# Altium integrated library Microchip Linear.IntLib: 855 symbols (part 17 of 22)
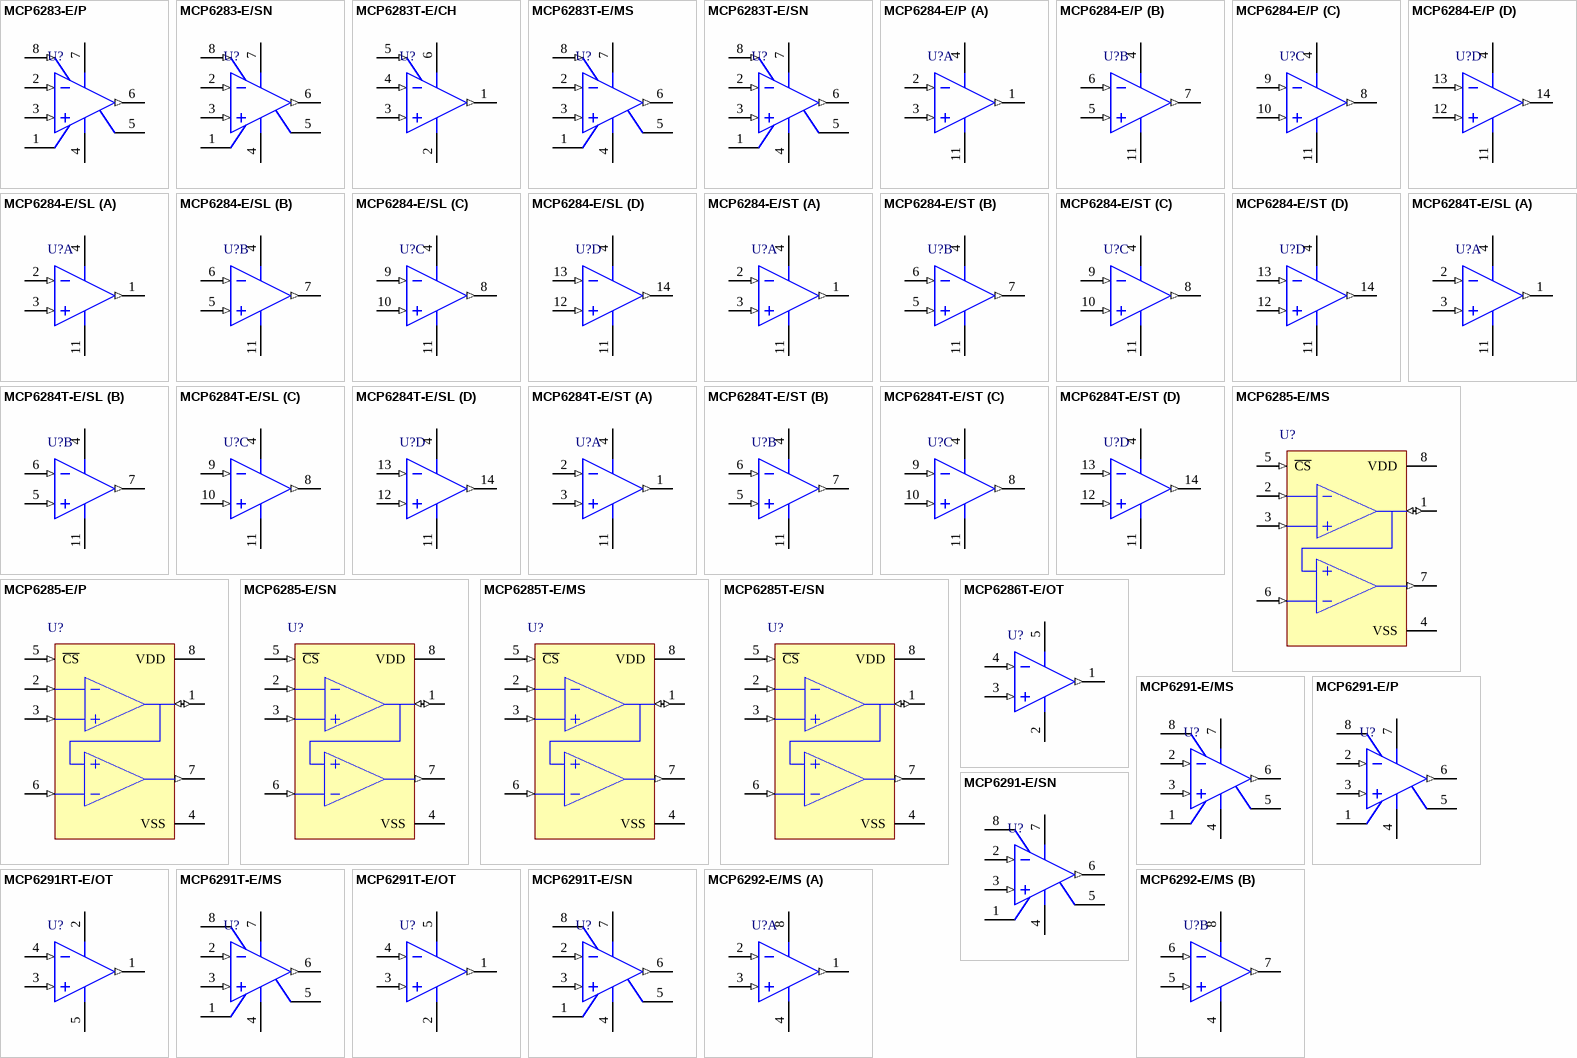
[diagram p57: symbols MCP6283-E/P to MCP6292-E/MS]

## MCP6283-E/SN
designator U?
450 uA, 5 MHz Rail-to-Rail Operational Amplifier, 8-Pin SOIC, Extended Temperature; Manufacturer: Microchip; PartNumber: MCP6283-E/SN; DatasheetVersion: revE, Feb-2008; PackageVersion: revBB, Aug-2009; PackageReference: SOIC-SN8; PackageDescription: 8-Lead Plastic Small Outline (SN) - Narrow, 3.90mm Body [SOIC]; Supplier 1: Digi-Key; Supplier Part Number 1: MCP6283-E/SN-ND; Mounting Technology: Surface Mount; Code_JEDEC: MS-012; Code_IPC: SOIC127P600-8; ComponentLink1Description: Manufacturer URL; ComponentLink1URL: http://www.microchip.com/; ComponentLink2Description: Datasheet; ComponentLink2URL: http://ww1.microchip.com/downloads/en/DeviceDoc/21811e.pdf; ComponentLink3Description: Package Specification; ComponentLink3URL: http://www.microchip.com/stellent/groups/techpub_sg/documents/packagingspec/en012702.pdf
footprint SOIC-SN8_N (SOIC, 8-Leads, Body 4.9x3.8mm, Pitch 1.27mm, IPC Medium Density)
footprint SOIC-SN8_L (SOIC, 8-Leads, Body 4.9x3.8mm, Pitch 1.27mm, IPC High Density)
footprint SOIC-SN8_M (SOIC, 8-Leads, Body 4.9x3.8mm, Pitch 1.27mm, IPC Low Density)
pins: 1 NC, 2 VIN- (in), 3 VIN+ (in), 4 VSS (power), 5 NC, 6 VOUT (out), 7 VDD (power), 8 ~{CS} (in)

## MCP6283T-E/CH
designator U?
450 uA, 5 MHz Rail-to-Rail Operational Amplifier, 6-Pin SOT-23, Extended Temperature, Tape and Reel; Manufacturer: Microchip; PartNumber: MCP6283T-E/CH; DatasheetVersion: revE, Feb-2008; PackageVersion: revBB, Aug-2009; PackageReference: SOT-23-CH6; PackageDescription: 6-Lead Plastic Small Outline Transistor (CH) [SOT-23]; Supplier 1: Digi-Key; Supplier Part Number 1: MCP6283T-E/CHTR-ND; Mounting Technology: Surface Mount; Code_IPC: SOT26A-6; ComponentLink1Description: Manufacturer URL; ComponentLink1URL: http://www.microchip.com/; ComponentLink2Description: Datasheet; ComponentLink2URL: http://ww1.microchip.com/downloads/en/DeviceDoc/21811e.pdf; ComponentLink3Description: Package Specification; ComponentLink3URL: http://www.microchip.com/stellent/groups/techpub_sg/documents/packagingspec/en012702.pdf
footprint SOT-23-CH6_N (SOT23, 6-Leads, Body 2.9x1.6mm, Pitch 0.95mm, Lead Span 2.7mm, IPC Medium Density)
footprint SOT-23-CH6_L (SOT23, 6-Leads, Body 2.9x1.6mm, Pitch 0.95mm, Lead Span 2.7mm, IPC High Density)
footprint SOT-23-CH6_M (SOT23, 6-Leads, Body 2.9x1.6mm, Pitch 0.95mm, Lead Span 2.7mm, IPC Low Density)
pins: 1 VOUT (out), 2 VSS (power), 3 VIN+ (in), 4 VIN- (in), 5 ~{CS} (in), 6 VDD (power)

## MCP6283T-E/MS
designator U?
450 uA, 5 MHz Rail-to-Rail Operational Amplifier, 8-Pin MSOP, Extended Temperature, Tape and Reel; Manufacturer: Microchip; PartNumber: MCP6283T-E/MS; DatasheetVersion: revE, Feb-2008; PackageVersion: revBB, Aug-2009; PackageReference: MSOP-MS8; PackageDescription: 8-Lead Plastic Micro Small Outline Package (MS) [MSOP]; Supplier 1: Digi-Key; Supplier Part Number 1: MCP6283T-E/MS-ND; Mounting Technology: Surface Mount; ComponentLink1Description: Manufacturer URL; ComponentLink1URL: http://www.microchip.com/; ComponentLink2Description: Datasheet; ComponentLink2URL: http://ww1.microchip.com/downloads/en/DeviceDoc/21811e.pdf; ComponentLink3Description: Package Specification; ComponentLink3URL: http://www.microchip.com/stellent/groups/techpub_sg/documents/packagingspec/en012702.pdf
footprint MSOP-MS8_N (TSOP, 8-Leads, Body 3x3mm, Pitch 0.65mm, IPC Medium Density)
footprint MSOP-MS8_L (TSOP, 8-Leads, Body 3x3mm, Pitch 0.65mm, IPC High Density)
footprint MSOP-MS8_M (TSOP, 8-Leads, Body 3x3mm, Pitch 0.65mm, IPC Low Density)
pins: 1 NC, 2 VIN- (in), 3 VIN+ (in), 4 VSS (power), 5 NC, 6 VOUT (out), 7 VDD (power), 8 ~{CS} (in)

## MCP6283T-E/SN
designator U?
450 uA, 5 MHz Rail-to-Rail Operational Amplifier, 8-Pin SOIC, Extended Temperature, Tape and Reel; Manufacturer: Microchip; PartNumber: MCP6283T-E/SN; DatasheetVersion: revE, Feb-2008; PackageVersion: revBB, Aug-2009; PackageReference: SOIC-SN8; PackageDescription: 8-Lead Plastic Small Outline (SN) - Narrow, 3.90mm Body [SOIC]; Supplier 1: Digi-Key; Supplier Part Number 1: MCP6283T-E/SN-ND; Mounting Technology: Surface Mount; Code_JEDEC: MS-012; Code_IPC: SOIC127P600-8; ComponentLink1Description: Manufacturer URL; ComponentLink1URL: http://www.microchip.com/; ComponentLink2Description: Datasheet; ComponentLink2URL: http://ww1.microchip.com/downloads/en/DeviceDoc/21811e.pdf; ComponentLink3Description: Package Specification; ComponentLink3URL: http://www.microchip.com/stellent/groups/techpub_sg/documents/packagingspec/en012702.pdf
footprint SOIC-SN8_N (SOIC, 8-Leads, Body 4.9x3.8mm, Pitch 1.27mm, IPC Medium Density)
footprint SOIC-SN8_L (SOIC, 8-Leads, Body 4.9x3.8mm, Pitch 1.27mm, IPC High Density)
footprint SOIC-SN8_M (SOIC, 8-Leads, Body 4.9x3.8mm, Pitch 1.27mm, IPC Low Density)
pins: 1 NC, 2 VIN- (in), 3 VIN+ (in), 4 VSS (power), 5 NC, 6 VOUT (out), 7 VDD (power), 8 ~{CS} (in)

## MCP6284-E/P
designator U?
450 uA, 5 MHz Rail-to-Rail Operational Amplifier, 14-Pin PDIP, Extended Temperature; Manufacturer: Microchip; PartNumber: MCP6284-E/P; DatasheetVersion: revE, Feb-2008; PackageVersion: revBB, Aug-2009; PackageReference: PDIP300-P14; PackageDescription: 14-Lead Plastic Dual In-Line (P) - 300 mil Body [PDIP]; Supplier 1: Digi-Key; Supplier Part Number 1: MCP6284-E/P-ND; Mounting Technology: Through Hole; ComponentLink1Description: Manufacturer URL; ComponentLink1URL: http://www.microchip.com/; ComponentLink2Description: Datasheet; ComponentLink2URL: http://ww1.microchip.com/downloads/en/DeviceDoc/21811e.pdf; ComponentLink3Description: Package Specification; ComponentLink3URL: http://www.microchip.com/stellent/groups/techpub_sg/documents/packagingspec/en012702.pdf
footprint PDIP300-P14 (DIP, 14-Leads, Row Spacing 7.62mm, Pitch 2.54mm, Body 19.2x6.6mm)
pins on every part: 4 VDD (power), 11 VSS (power)
part A pins: 1 VOUTA (out), 2 VINA- (in), 3 VINA+ (in)
part B pins: 5 VINB+ (in), 6 VINB- (in), 7 VOUTB (out)
part C pins: 8 VOUTC (out), 9 VINC- (in), 10 VINC+ (in)
part D pins: 12 VIND+ (in), 13 VIND- (in), 14 VOUTD (out)

## MCP6284-E/SL
designator U?
450 uA, 5 MHz Rail-to-Rail Operational Amplifier, 14-Pin SOIC, Extended Temperature; Manufacturer: Microchip; PartNumber: MCP6284-E/SL; DatasheetVersion: revE, Feb-2008; PackageVersion: revBB, Aug-2009; PackageReference: SOIC-SL14; PackageDescription: 14-Lead Plastic Small Outline (SL) - Narrow, 3.90mm Body [SOIC]; Supplier 1: Digi-Key; Supplier Part Number 1: MCP6284-E/SL-ND; Mounting Technology: Surface Mount; Code_JEDEC: MS-012-AB; Code_IPC: SOIC127P600-14; ComponentLink1Description: Manufacturer URL; ComponentLink1URL: http://www.microchip.com/; ComponentLink2Description: Datasheet; ComponentLink2URL: http://ww1.microchip.com/downloads/en/DeviceDoc/21811e.pdf; ComponentLink3Description: Package Specification; ComponentLink3URL: http://www.microchip.com/stellent/groups/techpub_sg/documents/packagingspec/en012702.pdf
footprint SOIC-SL14_N (SOIC, 14-Leads, Body 8.7x3.9mm, Pitch 1.27mm, IPC Medium Density)
footprint SOIC-SL14_L (SOIC, 14-Leads, Body 8.7x3.9mm, Pitch 1.27mm, IPC High Density)
footprint SOIC-SL14_M (SOIC, 14-Leads, Body 8.7x3.9mm, Pitch 1.27mm, IPC Low Density)
pins on every part: 4 VDD (power), 11 VSS (power)
part A pins: 1 VOUTA (out), 2 VINA- (in), 3 VINA+ (in)
part B pins: 5 VINB+ (in), 6 VINB- (in), 7 VOUTB (out)
part C pins: 8 VOUTC (out), 9 VINC- (in), 10 VINC+ (in)
part D pins: 12 VIND+ (in), 13 VIND- (in), 14 VOUTD (out)

## MCP6284-E/ST
designator U?
450 uA, 5 MHz Rail-to-Rail Operational Amplifier, 14-Pin TSSOP, Extended Temperature; Manufacturer: Microchip; PartNumber: MCP6284-E/ST; DatasheetVersion: revE, Feb-2008; PackageVersion: revBB, Aug-2009; PackageReference: TSSOP-ST14; PackageDescription: 14-Lead Plastic Thin Shrink Small Outline (ST) - 4.4mm Body [TSSOP]; Supplier 1: Digi-Key; Supplier Part Number 1: MCP6284-E/ST-ND; Mounting Technology: Surface Mount; ComponentLink1Description: Manufacturer URL; ComponentLink1URL: http://www.microchip.com/; ComponentLink2Description: Datasheet; ComponentLink2URL: http://ww1.microchip.com/downloads/en/DeviceDoc/21811e.pdf; ComponentLink3Description: Package Specification; ComponentLink3URL: http://www.microchip.com/stellent/groups/techpub_sg/documents/packagingspec/en012702.pdf
footprint TSSOP-ST14_N (TSOP, 14-Leads, Body 5x4.4mm, Pitch 0.65mm, IPC Medium Density)
footprint TSSOP-ST14_L (TSOP, 14-Leads, Body 5x4.4mm, Pitch 0.65mm, IPC High Density)
footprint TSSOP-ST14_M (TSOP, 14-Leads, Body 5x4.4mm, Pitch 0.65mm, IPC Low Density)
pins on every part: 4 VDD (power), 11 VSS (power)
part A pins: 1 VOUTA (out), 2 VINA- (in), 3 VINA+ (in)
part B pins: 5 VINB+ (in), 6 VINB- (in), 7 VOUTB (out)
part C pins: 8 VOUTC (out), 9 VINC- (in), 10 VINC+ (in)
part D pins: 12 VIND+ (in), 13 VIND- (in), 14 VOUTD (out)

## MCP6284T-E/SL
designator U?
450 uA, 5 MHz Rail-to-Rail Operational Amplifier, 14-Pin SOIC, Extended Temperature, Tape and Reel; Manufacturer: Microchip; PartNumber: MCP6284T-E/SL; DatasheetVersion: revE, Feb-2008; PackageVersion: revBB, Aug-2009; PackageReference: SOIC-SL14; PackageDescription: 14-Lead Plastic Small Outline (SL) - Narrow, 3.90mm Body [SOIC]; Supplier 1: Digi-Key; Supplier Part Number 1: MCP6284T-E/SL-ND; Mounting Technology: Surface Mount; Code_JEDEC: MS-012-AB; Code_IPC: SOIC127P600-14; ComponentLink1Description: Manufacturer URL; ComponentLink1URL: http://www.microchip.com/; ComponentLink2Description: Datasheet; ComponentLink2URL: http://ww1.microchip.com/downloads/en/DeviceDoc/21811e.pdf; ComponentLink3Description: Package Specification; ComponentLink3URL: http://www.microchip.com/stellent/groups/techpub_sg/documents/packagingspec/en012702.pdf
footprint SOIC-SL14_N (SOIC, 14-Leads, Body 8.7x3.9mm, Pitch 1.27mm, IPC Medium Density)
footprint SOIC-SL14_L (SOIC, 14-Leads, Body 8.7x3.9mm, Pitch 1.27mm, IPC High Density)
footprint SOIC-SL14_M (SOIC, 14-Leads, Body 8.7x3.9mm, Pitch 1.27mm, IPC Low Density)
pins on every part: 4 VDD (power), 11 VSS (power)
part A pins: 1 VOUTA (out), 2 VINA- (in), 3 VINA+ (in)
part B pins: 5 VINB+ (in), 6 VINB- (in), 7 VOUTB (out)
part C pins: 8 VOUTC (out), 9 VINC- (in), 10 VINC+ (in)
part D pins: 12 VIND+ (in), 13 VIND- (in), 14 VOUTD (out)

## MCP6284T-E/ST
designator U?
450 uA, 5 MHz Rail-to-Rail Operational Amplifier, 14-Pin TSSOP, Extended Temperature, Tape and Reel; Manufacturer: Microchip; PartNumber: MCP6284T-E/ST; DatasheetVersion: revE, Feb-2008; PackageVersion: revBB, Aug-2009; PackageReference: TSSOP-ST14; PackageDescription: 14-Lead Plastic Thin Shrink Small Outline (ST) - 4.4mm Body [TSSOP]; Supplier 1: Digi-Key; Supplier Part Number 1: MCP6284T-E/ST-ND; Mounting Technology: Surface Mount; ComponentLink1Description: Manufacturer URL; ComponentLink1URL: http://www.microchip.com/; ComponentLink2Description: Datasheet; ComponentLink2URL: http://ww1.microchip.com/downloads/en/DeviceDoc/21811e.pdf; ComponentLink3Description: Package Specification; ComponentLink3URL: http://www.microchip.com/stellent/groups/techpub_sg/documents/packagingspec/en012702.pdf
footprint TSSOP-ST14_N (TSOP, 14-Leads, Body 5x4.4mm, Pitch 0.65mm, IPC Medium Density)
footprint TSSOP-ST14_L (TSOP, 14-Leads, Body 5x4.4mm, Pitch 0.65mm, IPC High Density)
footprint TSSOP-ST14_M (TSOP, 14-Leads, Body 5x4.4mm, Pitch 0.65mm, IPC Low Density)
pins on every part: 4 VDD (power), 11 VSS (power)
part A pins: 1 VOUTA (out), 2 VINA- (in), 3 VINA+ (in)
part B pins: 5 VINB+ (in), 6 VINB- (in), 7 VOUTB (out)
part C pins: 8 VOUTC (out), 9 VINC- (in), 10 VINC+ (in)
part D pins: 12 VIND+ (in), 13 VIND- (in), 14 VOUTD (out)

## MCP6285-E/MS
designator U?
450 uA, 5 MHz Rail-to-Rail Operational Amplifier, 8-Pin MSOP, Extended Temperature; Manufacturer: Microchip; PartNumber: MCP6285-E/MS; DatasheetVersion: revE, Feb-2008; PackageVersion: revBB, Aug-2009; PackageReference: MSOP-MS8; PackageDescription: 8-Lead Plastic Micro Small Outline Package (MS) [MSOP]; Supplier 1: Digi-Key; Supplier Part Number 1: MCP6285-E/MS-ND; Mounting Technology: Surface Mount; ComponentLink1Description: Manufacturer URL; ComponentLink1URL: http://www.microchip.com/; ComponentLink2Description: Datasheet; ComponentLink2URL: http://ww1.microchip.com/downloads/en/DeviceDoc/21811e.pdf; ComponentLink3Description: Package Specification; ComponentLink3URL: http://www.microchip.com/stellent/groups/techpub_sg/documents/packagingspec/en012702.pdf
footprint MSOP-MS8_N (TSOP, 8-Leads, Body 3x3mm, Pitch 0.65mm, IPC Medium Density)
footprint MSOP-MS8_L (TSOP, 8-Leads, Body 3x3mm, Pitch 0.65mm, IPC High Density)
footprint MSOP-MS8_M (TSOP, 8-Leads, Body 3x3mm, Pitch 0.65mm, IPC Low Density)
pins: 1 VOUTA/VINB+ (io), 2 VINA- (in), 3 VINA+ (in), 4 VSS (power), 5 ~{CS} (in), 6 VINB- (in), 7 VOUTB (out), 8 VDD (power)

## MCP6285-E/P
designator U?
450 uA, 5 MHz Rail-to-Rail Operational Amplifier, 8-Pin PDIP, Extended Temperature; Manufacturer: Microchip; PartNumber: MCP6285-E/P; DatasheetVersion: revE, Feb-2008; PackageVersion: revBB, Aug-2009; PackageReference: PDIP300-P8; PackageDescription: 8-Lead Plastic Dual In-Line (P) - 300 mil Body [PDIP]; Supplier 1: Digi-Key; Supplier Part Number 1: MCP6285-E/P-ND; Mounting Technology: Through Hole; Code_JEDEC: MS-001; ComponentLink1Description: Manufacturer URL; ComponentLink1URL: http://www.microchip.com/; ComponentLink2Description: Datasheet; ComponentLink2URL: http://ww1.microchip.com/downloads/en/DeviceDoc/21811e.pdf; ComponentLink3Description: Package Specification; ComponentLink3URL: http://www.microchip.com/stellent/groups/techpub_sg/documents/packagingspec/en012702.pdf
footprint PDIP300-P8 (DIP, 8-Leads, Row Spacing 7.62mm, Pitch 2.54mm, Body 9.5x6.6mm)
pins: 1 VOUTA/VINB+ (io), 2 VINA- (in), 3 VINA+ (in), 4 VSS (power), 5 ~{CS} (in), 6 VINB- (in), 7 VOUTB (out), 8 VDD (power)

## MCP6285-E/SN
designator U?
450 uA, 5 MHz Rail-to-Rail Operational Amplifier, 8-Pin SOIC, Extended Temperature; Manufacturer: Microchip; PartNumber: MCP6285-E/SN; DatasheetVersion: revE, Feb-2008; PackageVersion: revBB, Aug-2009; PackageReference: SOIC-SN8; PackageDescription: 8-Lead Plastic Small Outline (SN) - Narrow, 3.90mm Body [SOIC]; Supplier 1: Digi-Key; Supplier Part Number 1: MCP6285-E/SN-ND; Mounting Technology: Surface Mount; Code_JEDEC: MS-012; Code_IPC: SOIC127P600-8; ComponentLink1Description: Manufacturer URL; ComponentLink1URL: http://www.microchip.com/; ComponentLink2Description: Datasheet; ComponentLink2URL: http://ww1.microchip.com/downloads/en/DeviceDoc/21811e.pdf; ComponentLink3Description: Package Specification; ComponentLink3URL: http://www.microchip.com/stellent/groups/techpub_sg/documents/packagingspec/en012702.pdf
footprint SOIC-SN8_N (SOIC, 8-Leads, Body 4.9x3.8mm, Pitch 1.27mm, IPC Medium Density)
footprint SOIC-SN8_L (SOIC, 8-Leads, Body 4.9x3.8mm, Pitch 1.27mm, IPC High Density)
footprint SOIC-SN8_M (SOIC, 8-Leads, Body 4.9x3.8mm, Pitch 1.27mm, IPC Low Density)
pins: 1 VOUTA/VINB+ (io), 2 VINA- (in), 3 VINA+ (in), 4 VSS (power), 5 ~{CS} (in), 6 VINB- (in), 7 VOUTB (out), 8 VDD (power)

## MCP6285T-E/MS
designator U?
450 uA, 5 MHz Rail-to-Rail Operational Amplifier, 8-Pin MSOP, Extended Temperature, Tape and Reel; Manufacturer: Microchip; PartNumber: MCP6285T-E/MS; DatasheetVersion: revE, Feb-2008; PackageVersion: revBB, Aug-2009; PackageReference: MSOP-MS8; PackageDescription: 8-Lead Plastic Micro Small Outline Package (MS) [MSOP]; Supplier 1: Digi-Key; Supplier Part Number 1: MCP6285T-E/MS-ND; Mounting Technology: Surface Mount; ComponentLink1Description: Manufacturer URL; ComponentLink1URL: http://www.microchip.com/; ComponentLink2Description: Datasheet; ComponentLink2URL: http://ww1.microchip.com/downloads/en/DeviceDoc/21811e.pdf; ComponentLink3Description: Package Specification; ComponentLink3URL: http://www.microchip.com/stellent/groups/techpub_sg/documents/packagingspec/en012702.pdf
footprint MSOP-MS8_N (TSOP, 8-Leads, Body 3x3mm, Pitch 0.65mm, IPC Medium Density)
footprint MSOP-MS8_L (TSOP, 8-Leads, Body 3x3mm, Pitch 0.65mm, IPC High Density)
footprint MSOP-MS8_M (TSOP, 8-Leads, Body 3x3mm, Pitch 0.65mm, IPC Low Density)
pins: 1 VOUTA/VINB+ (io), 2 VINA- (in), 3 VINA+ (in), 4 VSS (power), 5 ~{CS} (in), 6 VINB- (in), 7 VOUTB (out), 8 VDD (power)

## MCP6285T-E/SN
designator U?
450 uA, 5 MHz Rail-to-Rail Operational Amplifier, 8-Pin SOIC, Extended Temperature, Tape and Reel; Manufacturer: Microchip; PartNumber: MCP6285T-E/SN; DatasheetVersion: revE, Feb-2008; PackageVersion: revBB, Aug-2009; PackageReference: SOIC-SN8; PackageDescription: 8-Lead Plastic Small Outline (SN) - Narrow, 3.90mm Body [SOIC]; Supplier 1: Digi-Key; Supplier Part Number 1: MCP6285T-E/SN-ND; Mounting Technology: Surface Mount; Code_JEDEC: MS-012; Code_IPC: SOIC127P600-8; ComponentLink1Description: Manufacturer URL; ComponentLink1URL: http://www.microchip.com/; ComponentLink2Description: Datasheet; ComponentLink2URL: http://ww1.microchip.com/downloads/en/DeviceDoc/21811e.pdf; ComponentLink3Description: Package Specification; ComponentLink3URL: http://www.microchip.com/stellent/groups/techpub_sg/documents/packagingspec/en012702.pdf
footprint SOIC-SN8_N (SOIC, 8-Leads, Body 4.9x3.8mm, Pitch 1.27mm, IPC Medium Density)
footprint SOIC-SN8_L (SOIC, 8-Leads, Body 4.9x3.8mm, Pitch 1.27mm, IPC High Density)
footprint SOIC-SN8_M (SOIC, 8-Leads, Body 4.9x3.8mm, Pitch 1.27mm, IPC Low Density)
pins: 1 VOUTA/VINB+ (io), 2 VINA- (in), 3 VINA+ (in), 4 VSS (power), 5 ~{CS} (in), 6 VINB- (in), 7 VOUTB (out), 8 VDD (power)

## MCP6286T-E/OT
designator U?
Low Noise, Low Power Op Amp, 5-Pin SOT, Extended Temperature, Tape and Reel; Manufacturer: Microchip; PartNumber: MCP6286T-E/OT; DatasheetVersion: revA, Aug-2009; PackageVersion: revBB, Aug-2009; PackageReference: SOT-23-OT5; PackageDescription: 5-Lead Plastic Small Outline Transistor (OT) [SOT-23]; Supplier 1: Digi-Key; Supplier Part Number 1: MCP6286T-E/OTTR-ND; Mounting Technology: Surface Mount; Code_IPC: SOT23-5; ComponentLink1Description: Manufacturer URL; ComponentLink1URL: http://www.microchip.com/; ComponentLink2Description: Datasheet; ComponentLink2URL: http://ww1.microchip.com/downloads/en/DeviceDoc/22196a.pdf; ComponentLink3Description: Package Specification; ComponentLink3URL: http://www.microchip.com/stellent/groups/techpub_sg/documents/packagingspec/en012702.pdf
footprint SOT-23-OT5_N (SOT23, 5-Leads, Body 2.9x1.6mm, Pitch 0.95mm, Lead Span 2.7mm, IPC Medium Density)
footprint SOT-23-OT5_L (SOT23, 5-Leads, Body 2.9x1.6mm, Pitch 0.95mm, Lead Span 2.7mm, IPC High Density)
footprint SOT-23-OT5_M (SOT23, 5-Leads, Body 2.9x1.6mm, Pitch 0.95mm, Lead Span 2.7mm, IPC Low Density)
pins: 1 VOUT (out), 2 VSS (power), 3 VIN+ (in), 4 VIN- (in), 5 VDD (power)

## MCP6291-E/MS
designator U?
1.0 mA, 10 MHz Rail-to-Rail Operational Amplifier, 8-Pin MSOP, Extended Temperature; Manufacturer: Microchip; PartNumber: MCP6291-E/MS; DatasheetVersion: revE, Nov-2007; PackageVersion: revBB, Aug-2009; PackageReference: MSOP-MS8; PackageDescription: 8-Lead Plastic Micro Small Outline Package (MS) [MSOP]; Supplier 1: Digi-Key; Supplier Part Number 1: MCP6291-E/MS-ND; Mounting Technology: Surface Mount; ComponentLink1Description: Manufacturer URL; ComponentLink1URL: http://www.microchip.com/; ComponentLink2Description: Datasheet; ComponentLink2URL: http://ww1.microchip.com/downloads/en/DeviceDoc/21812e.pdf; ComponentLink3Description: Package Specification; ComponentLink3URL: http://www.microchip.com/stellent/groups/techpub_sg/documents/packagingspec/en012702.pdf
footprint MSOP-MS8_N (TSOP, 8-Leads, Body 3x3mm, Pitch 0.65mm, IPC Medium Density)
footprint MSOP-MS8_L (TSOP, 8-Leads, Body 3x3mm, Pitch 0.65mm, IPC High Density)
footprint MSOP-MS8_M (TSOP, 8-Leads, Body 3x3mm, Pitch 0.65mm, IPC Low Density)
pins: 1 NC, 2 VIN- (in), 3 VIN+ (in), 4 VSS (power), 5 NC, 6 VOUT (out), 7 VDD (power), 8 NC

## MCP6291-E/P
designator U?
1.0 mA, 10 MHz Rail-to-Rail Operational Amplifier, 8-Pin PDIP, Extended Temperature; Manufacturer: Microchip; PartNumber: MCP6291-E/P; DatasheetVersion: revE, Nov-2007; PackageVersion: revBB, Aug-2009; PackageReference: PDIP300-P8; PackageDescription: 8-Lead Plastic Dual In-Line (P) - 300 mil Body [PDIP]; Supplier 1: Digi-Key; Supplier Part Number 1: MCP6291-E/P-ND; Mounting Technology: Through Hole; Code_JEDEC: MS-001; ComponentLink1Description: Manufacturer URL; ComponentLink1URL: http://www.microchip.com/; ComponentLink2Description: Datasheet; ComponentLink2URL: http://ww1.microchip.com/downloads/en/DeviceDoc/21812e.pdf; ComponentLink3Description: Package Specification; ComponentLink3URL: http://www.microchip.com/stellent/groups/techpub_sg/documents/packagingspec/en012702.pdf
footprint PDIP300-P8 (DIP, 8-Leads, Row Spacing 7.62mm, Pitch 2.54mm, Body 9.5x6.6mm)
pins: 1 NC, 2 VIN- (in), 3 VIN+ (in), 4 VSS (power), 5 NC, 6 VOUT (out), 7 VDD (power), 8 NC

## MCP6291-E/SN
designator U?
1.0 mA, 10 MHz Rail-to-Rail Operational Amplifier, 8-Pin SOIC, Extended Temperature; Manufacturer: Microchip; PartNumber: MCP6291-E/SN; DatasheetVersion: revE, Nov-2007; PackageVersion: revBB, Aug-2009; PackageReference: SOIC-SN8; PackageDescription: 8-Lead Plastic Small Outline (SN) - Narrow, 3.90mm Body [SOIC]; Supplier 1: Digi-Key; Supplier Part Number 1: MCP6291-E/SN-ND; Mounting Technology: Surface Mount; Code_JEDEC: MS-012; Code_IPC: SOIC127P600-8; ComponentLink1Description: Manufacturer URL; ComponentLink1URL: http://www.microchip.com/; ComponentLink2Description: Datasheet; ComponentLink2URL: http://ww1.microchip.com/downloads/en/DeviceDoc/21812e.pdf; ComponentLink3Description: Package Specification; ComponentLink3URL: http://www.microchip.com/stellent/groups/techpub_sg/documents/packagingspec/en012702.pdf
footprint SOIC-SN8_N (SOIC, 8-Leads, Body 4.9x3.8mm, Pitch 1.27mm, IPC Medium Density)
footprint SOIC-SN8_L (SOIC, 8-Leads, Body 4.9x3.8mm, Pitch 1.27mm, IPC High Density)
footprint SOIC-SN8_M (SOIC, 8-Leads, Body 4.9x3.8mm, Pitch 1.27mm, IPC Low Density)
pins: 1 NC, 2 VIN- (in), 3 VIN+ (in), 4 VSS (power), 5 NC, 6 VOUT (out), 7 VDD (power), 8 NC

## MCP6291RT-E/OT
designator U?
1.0 mA, 10 MHz Rail-to-Rail Operational Amplifier, 5-Pin SOT-23, Extended Temperature, Tape and Reel; Manufacturer: Microchip; PartNumber: MCP6291RT-E/OT; DatasheetVersion: revE, Nov-2007; PackageVersion: revBB, Aug-2009; PackageReference: SOT-23-OT5; PackageDescription: 5-Lead Plastic Small Outline Transistor (OT) [SOT-23]; Supplier 1: Digi-Key; Supplier Part Number 1: MCP6291RT-E/OTTR-ND; Mounting Technology: Surface Mount; Code_IPC: SOT23-5; ComponentLink1Description: Manufacturer URL; ComponentLink1URL: http://www.microchip.com/; ComponentLink2Description: Datasheet; ComponentLink2URL: http://ww1.microchip.com/downloads/en/DeviceDoc/21812e.pdf; ComponentLink3Description: Package Specification; ComponentLink3URL: http://www.microchip.com/stellent/groups/techpub_sg/documents/packagingspec/en012702.pdf
footprint SOT-23-OT5_N (SOT23, 5-Leads, Body 2.9x1.6mm, Pitch 0.95mm, Lead Span 2.7mm, IPC Medium Density)
footprint SOT-23-OT5_L (SOT23, 5-Leads, Body 2.9x1.6mm, Pitch 0.95mm, Lead Span 2.7mm, IPC High Density)
footprint SOT-23-OT5_M (SOT23, 5-Leads, Body 2.9x1.6mm, Pitch 0.95mm, Lead Span 2.7mm, IPC Low Density)
pins: 1 VOUT (out), 2 VDD (power), 3 VIN+ (in), 4 VIN- (in), 5 VSS (power)

## MCP6291T-E/MS
designator U?
1.0 mA, 10 MHz Rail-to-Rail Operational Amplifier, 8-Pin MSOP, Extended Temperature, Tape and Reel; Manufacturer: Microchip; PartNumber: MCP6291T-E/MS; DatasheetVersion: revE, Nov-2007; PackageVersion: revBB, Aug-2009; PackageReference: MSOP-MS8; PackageDescription: 8-Lead Plastic Micro Small Outline Package (MS) [MSOP]; Supplier 1: Digi-Key; Supplier Part Number 1: MCP6291T-E/MS-ND; Mounting Technology: Surface Mount; ComponentLink1Description: Manufacturer URL; ComponentLink1URL: http://www.microchip.com/; ComponentLink2Description: Datasheet; ComponentLink2URL: http://ww1.microchip.com/downloads/en/DeviceDoc/21812e.pdf; ComponentLink3Description: Package Specification; ComponentLink3URL: http://www.microchip.com/stellent/groups/techpub_sg/documents/packagingspec/en012702.pdf
footprint MSOP-MS8_N (TSOP, 8-Leads, Body 3x3mm, Pitch 0.65mm, IPC Medium Density)
footprint MSOP-MS8_L (TSOP, 8-Leads, Body 3x3mm, Pitch 0.65mm, IPC High Density)
footprint MSOP-MS8_M (TSOP, 8-Leads, Body 3x3mm, Pitch 0.65mm, IPC Low Density)
pins: 1 NC, 2 VIN- (in), 3 VIN+ (in), 4 VSS (power), 5 NC, 6 VOUT (out), 7 VDD (power), 8 NC

## MCP6291T-E/OT
designator U?
1.0 mA, 10 MHz Rail-to-Rail Operational Amplifier, 5-Pin SOT-23, Extended Temperature, Tape and Reel; Manufacturer: Microchip; PartNumber: MCP6291T-E/OT; DatasheetVersion: revE, Nov-2007; PackageVersion: revBB, Aug-2009; PackageReference: SOT-23-OT5; PackageDescription: 5-Lead Plastic Small Outline Transistor (OT) [SOT-23]; Supplier 1: Digi-Key; Supplier Part Number 1: MCP6291T-E/OTTR-ND; Mounting Technology: Surface Mount; Code_IPC: SOT23-5; ComponentLink1Description: Manufacturer URL; ComponentLink1URL: http://www.microchip.com/; ComponentLink2Description: Datasheet; ComponentLink2URL: http://ww1.microchip.com/downloads/en/DeviceDoc/21812e.pdf; ComponentLink3Description: Package Specification; ComponentLink3URL: http://www.microchip.com/stellent/groups/techpub_sg/documents/packagingspec/en012702.pdf
footprint SOT-23-OT5_N (SOT23, 5-Leads, Body 2.9x1.6mm, Pitch 0.95mm, Lead Span 2.7mm, IPC Medium Density)
footprint SOT-23-OT5_L (SOT23, 5-Leads, Body 2.9x1.6mm, Pitch 0.95mm, Lead Span 2.7mm, IPC High Density)
footprint SOT-23-OT5_M (SOT23, 5-Leads, Body 2.9x1.6mm, Pitch 0.95mm, Lead Span 2.7mm, IPC Low Density)
pins: 1 VOUT (out), 2 VSS (power), 3 VIN+ (in), 4 VIN- (in), 5 VDD (power)

## MCP6291T-E/SN
designator U?
1.0 mA, 10 MHz Rail-to-Rail Operational Amplifier, 8-Pin SOIC, Extended Temperature, Tape and Reel; Manufacturer: Microchip; PartNumber: MCP6291T-E/SN; DatasheetVersion: revE, Nov-2007; PackageVersion: revBB, Aug-2009; PackageReference: SOIC-SN8; PackageDescription: 8-Lead Plastic Small Outline (SN) - Narrow, 3.90mm Body [SOIC]; Supplier 1: Digi-Key; Supplier Part Number 1: MCP6291T-E/SN-ND; Mounting Technology: Surface Mount; Code_JEDEC: MS-012; Code_IPC: SOIC127P600-8; ComponentLink1Description: Manufacturer URL; ComponentLink1URL: http://www.microchip.com/; ComponentLink2Description: Datasheet; ComponentLink2URL: http://ww1.microchip.com/downloads/en/DeviceDoc/21812e.pdf; ComponentLink3Description: Package Specification; ComponentLink3URL: http://www.microchip.com/stellent/groups/techpub_sg/documents/packagingspec/en012702.pdf
footprint SOIC-SN8_N (SOIC, 8-Leads, Body 4.9x3.8mm, Pitch 1.27mm, IPC Medium Density)
footprint SOIC-SN8_L (SOIC, 8-Leads, Body 4.9x3.8mm, Pitch 1.27mm, IPC High Density)
footprint SOIC-SN8_M (SOIC, 8-Leads, Body 4.9x3.8mm, Pitch 1.27mm, IPC Low Density)
pins: 1 NC, 2 VIN- (in), 3 VIN+ (in), 4 VSS (power), 5 NC, 6 VOUT (out), 7 VDD (power), 8 NC

## MCP6292-E/MS
designator U?
1.0 mA, 10 MHz Rail-to-Rail Operational Amplifier, 8-Pin MSOP, Extended Temperature; Manufacturer: Microchip; PartNumber: MCP6292-E/MS; DatasheetVersion: revE, Nov-2007; PackageVersion: revBB, Aug-2009; PackageReference: MSOP-MS8; PackageDescription: 8-Lead Plastic Micro Small Outline Package (MS) [MSOP]; Supplier 1: Digi-Key; Supplier Part Number 1: MCP6292-E/MS-ND; Mounting Technology: Surface Mount; ComponentLink1Description: Manufacturer URL; ComponentLink1URL: http://www.microchip.com/; ComponentLink2Description: Datasheet; ComponentLink2URL: http://ww1.microchip.com/downloads/en/DeviceDoc/21812e.pdf; ComponentLink3Description: Package Specification; ComponentLink3URL: http://www.microchip.com/stellent/groups/techpub_sg/documents/packagingspec/en012702.pdf
footprint MSOP-MS8_N (TSOP, 8-Leads, Body 3x3mm, Pitch 0.65mm, IPC Medium Density)
footprint MSOP-MS8_L (TSOP, 8-Leads, Body 3x3mm, Pitch 0.65mm, IPC High Density)
footprint MSOP-MS8_M (TSOP, 8-Leads, Body 3x3mm, Pitch 0.65mm, IPC Low Density)
pins on every part: 4 VSS (power), 8 VDD (power)
part A pins: 1 VOUTA (out), 2 VINA- (in), 3 VINA+ (in)
part B pins: 5 VINB+ (in), 6 VINB- (in), 7 VOUTB (out)

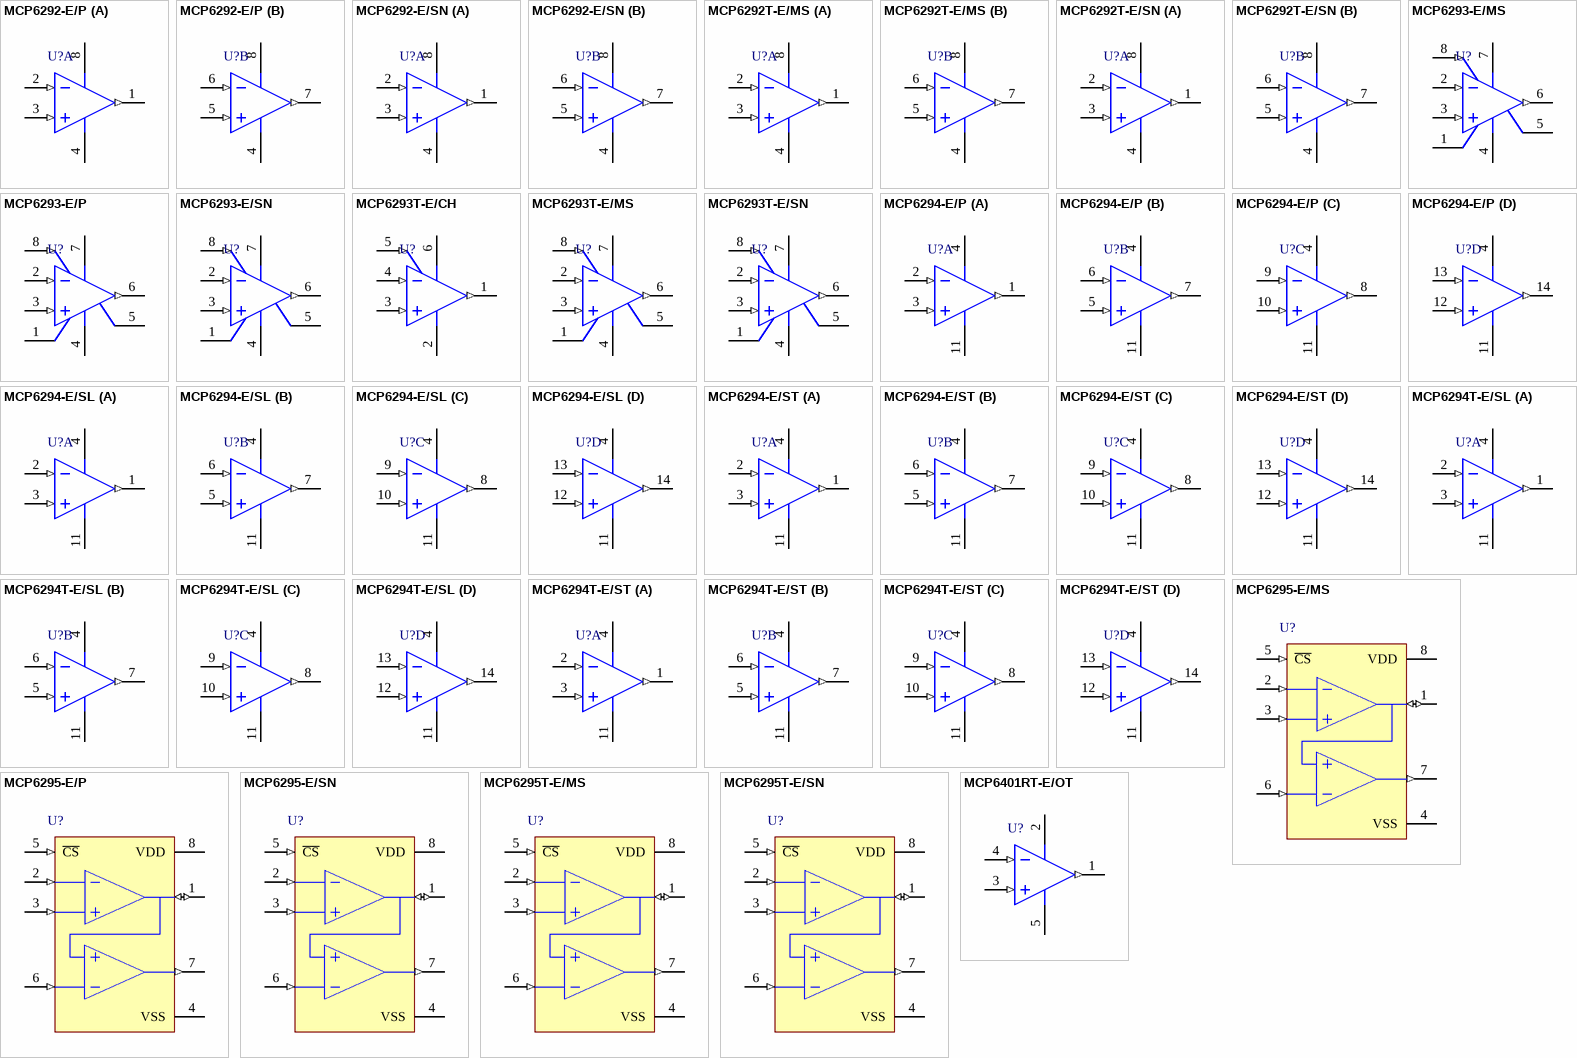
[diagram p32: symbols MCP6292-E/P to MCP6401RT-E/OT]

## MCP6292-E/P
designator U?
1.0 mA, 10 MHz Rail-to-Rail Operational Amplifier, 8-Pin PDIP, Extended Temperature; Manufacturer: Microchip; PartNumber: MCP6292-E/P; DatasheetVersion: revE, Nov-2007; PackageVersion: revBB, Aug-2009; PackageReference: PDIP300-P8; PackageDescription: 8-Lead Plastic Dual In-Line (P) - 300 mil Body [PDIP]; Supplier 1: Digi-Key; Supplier Part Number 1: MCP6292-E/P-ND; Mounting Technology: Through Hole; Code_JEDEC: MS-001; ComponentLink1Description: Manufacturer URL; ComponentLink1URL: http://www.microchip.com/; ComponentLink2Description: Datasheet; ComponentLink2URL: http://ww1.microchip.com/downloads/en/DeviceDoc/21812e.pdf; ComponentLink3Description: Package Specification; ComponentLink3URL: http://www.microchip.com/stellent/groups/techpub_sg/documents/packagingspec/en012702.pdf
footprint PDIP300-P8 (DIP, 8-Leads, Row Spacing 7.62mm, Pitch 2.54mm, Body 9.5x6.6mm)
pins on every part: 4 VSS (power), 8 VDD (power)
part A pins: 1 VOUTA (out), 2 VINA- (in), 3 VINA+ (in)
part B pins: 5 VINB+ (in), 6 VINB- (in), 7 VOUTB (out)

## MCP6292-E/SN
designator U?
1.0 mA, 10 MHz Rail-to-Rail Operational Amplifier, 8-Pin SOIC, Extended Temperature; Manufacturer: Microchip; PartNumber: MCP6292-E/SN; DatasheetVersion: revE, Nov-2007; PackageVersion: revBB, Aug-2009; PackageReference: SOIC-SN8; PackageDescription: 8-Lead Plastic Small Outline (SN) - Narrow, 3.90mm Body [SOIC]; Supplier 1: Digi-Key; Supplier Part Number 1: MCP6292-E/SN-ND; Mounting Technology: Surface Mount; Code_JEDEC: MS-012; Code_IPC: SOIC127P600-8; ComponentLink1Description: Manufacturer URL; ComponentLink1URL: http://www.microchip.com/; ComponentLink2Description: Datasheet; ComponentLink2URL: http://ww1.microchip.com/downloads/en/DeviceDoc/21812e.pdf; ComponentLink3Description: Package Specification; ComponentLink3URL: http://www.microchip.com/stellent/groups/techpub_sg/documents/packagingspec/en012702.pdf
footprint SOIC-SN8_N (SOIC, 8-Leads, Body 4.9x3.8mm, Pitch 1.27mm, IPC Medium Density)
footprint SOIC-SN8_L (SOIC, 8-Leads, Body 4.9x3.8mm, Pitch 1.27mm, IPC High Density)
footprint SOIC-SN8_M (SOIC, 8-Leads, Body 4.9x3.8mm, Pitch 1.27mm, IPC Low Density)
pins on every part: 4 VSS (power), 8 VDD (power)
part A pins: 1 VOUTA (out), 2 VINA- (in), 3 VINA+ (in)
part B pins: 5 VINB+ (in), 6 VINB- (in), 7 VOUTB (out)

## MCP6292T-E/MS
designator U?
1.0 mA, 10 MHz Rail-to-Rail Operational Amplifier, 8-Pin MSOP, Extended Temperature, Tape and Reel; Manufacturer: Microchip; PartNumber: MCP6292T-E/MS; DatasheetVersion: revE, Nov-2007; PackageVersion: revBB, Aug-2009; PackageReference: MSOP-MS8; PackageDescription: 8-Lead Plastic Micro Small Outline Package (MS) [MSOP]; Supplier 1: Digi-Key; Supplier Part Number 1: MCP6292T-E/MS-ND; Mounting Technology: Surface Mount; ComponentLink1Description: Manufacturer URL; ComponentLink1URL: http://www.microchip.com/; ComponentLink2Description: Datasheet; ComponentLink2URL: http://ww1.microchip.com/downloads/en/DeviceDoc/21812e.pdf; ComponentLink3Description: Package Specification; ComponentLink3URL: http://www.microchip.com/stellent/groups/techpub_sg/documents/packagingspec/en012702.pdf
footprint MSOP-MS8_N (TSOP, 8-Leads, Body 3x3mm, Pitch 0.65mm, IPC Medium Density)
footprint MSOP-MS8_L (TSOP, 8-Leads, Body 3x3mm, Pitch 0.65mm, IPC High Density)
footprint MSOP-MS8_M (TSOP, 8-Leads, Body 3x3mm, Pitch 0.65mm, IPC Low Density)
pins on every part: 4 VSS (power), 8 VDD (power)
part A pins: 1 VOUTA (out), 2 VINA- (in), 3 VINA+ (in)
part B pins: 5 VINB+ (in), 6 VINB- (in), 7 VOUTB (out)

## MCP6292T-E/SN
designator U?
1.0 mA, 10 MHz Rail-to-Rail Operational Amplifier, 8-Pin SOIC, Extended Temperature, Tape and Reel; Manufacturer: Microchip; PartNumber: MCP6292T-E/SN; DatasheetVersion: revE, Nov-2007; PackageVersion: revBB, Aug-2009; PackageReference: SOIC-SN8; PackageDescription: 8-Lead Plastic Small Outline (SN) - Narrow, 3.90mm Body [SOIC]; Supplier 1: Digi-Key; Supplier Part Number 1: MCP6292T-E/SN-ND; Mounting Technology: Surface Mount; Code_JEDEC: MS-012; Code_IPC: SOIC127P600-8; ComponentLink1Description: Manufacturer URL; ComponentLink1URL: http://www.microchip.com/; ComponentLink2Description: Datasheet; ComponentLink2URL: http://ww1.microchip.com/downloads/en/DeviceDoc/21812e.pdf; ComponentLink3Description: Package Specification; ComponentLink3URL: http://www.microchip.com/stellent/groups/techpub_sg/documents/packagingspec/en012702.pdf
footprint SOIC-SN8_N (SOIC, 8-Leads, Body 4.9x3.8mm, Pitch 1.27mm, IPC Medium Density)
footprint SOIC-SN8_L (SOIC, 8-Leads, Body 4.9x3.8mm, Pitch 1.27mm, IPC High Density)
footprint SOIC-SN8_M (SOIC, 8-Leads, Body 4.9x3.8mm, Pitch 1.27mm, IPC Low Density)
pins on every part: 4 VSS (power), 8 VDD (power)
part A pins: 1 VOUTA (out), 2 VINA- (in), 3 VINA+ (in)
part B pins: 5 VINB+ (in), 6 VINB- (in), 7 VOUTB (out)

## MCP6293-E/MS
designator U?
1.0 mA, 10 MHz Rail-to-Rail Operational Amplifier, 8-Pin MSOP, Extended Temperature; Manufacturer: Microchip; PartNumber: MCP6293-E/MS; DatasheetVersion: revE, Nov-2007; PackageVersion: revBB, Aug-2009; PackageReference: MSOP-MS8; PackageDescription: 8-Lead Plastic Micro Small Outline Package (MS) [MSOP]; Supplier 1: Digi-Key; Supplier Part Number 1: MCP6293-E/MS-ND; Mounting Technology: Surface Mount; ComponentLink1Description: Manufacturer URL; ComponentLink1URL: http://www.microchip.com/; ComponentLink2Description: Datasheet; ComponentLink2URL: http://ww1.microchip.com/downloads/en/DeviceDoc/21812e.pdf; ComponentLink3Description: Package Specification; ComponentLink3URL: http://www.microchip.com/stellent/groups/techpub_sg/documents/packagingspec/en012702.pdf
footprint MSOP-MS8_N (TSOP, 8-Leads, Body 3x3mm, Pitch 0.65mm, IPC Medium Density)
footprint MSOP-MS8_L (TSOP, 8-Leads, Body 3x3mm, Pitch 0.65mm, IPC High Density)
footprint MSOP-MS8_M (TSOP, 8-Leads, Body 3x3mm, Pitch 0.65mm, IPC Low Density)
pins: 1 NC, 2 VIN- (in), 3 VIN+ (in), 4 VSS (power), 5 NC, 6 VOUT (out), 7 VDD (power), 8 ~{CS} (in)

## MCP6293-E/P
designator U?
1.0 mA, 10 MHz Rail-to-Rail Operational Amplifier, 8-Pin PDIP, Extended Temperature; Manufacturer: Microchip; PartNumber: MCP6293-E/P; DatasheetVersion: revE, Nov-2007; PackageVersion: revBB, Aug-2009; PackageReference: PDIP300-P8; PackageDescription: 8-Lead Plastic Dual In-Line (P) - 300 mil Body [PDIP]; Supplier 1: Digi-Key; Supplier Part Number 1: MCP6293-E/P-ND; Mounting Technology: Through Hole; Code_JEDEC: MS-001; ComponentLink1Description: Manufacturer URL; ComponentLink1URL: http://www.microchip.com/; ComponentLink2Description: Datasheet; ComponentLink2URL: http://ww1.microchip.com/downloads/en/DeviceDoc/21812e.pdf; ComponentLink3Description: Package Specification; ComponentLink3URL: http://www.microchip.com/stellent/groups/techpub_sg/documents/packagingspec/en012702.pdf
footprint PDIP300-P8 (DIP, 8-Leads, Row Spacing 7.62mm, Pitch 2.54mm, Body 9.5x6.6mm)
pins: 1 NC, 2 VIN- (in), 3 VIN+ (in), 4 VSS (power), 5 NC, 6 VOUT (out), 7 VDD (power), 8 ~{CS} (in)

## MCP6293-E/SN
designator U?
1.0 mA, 10 MHz Rail-to-Rail Operational Amplifier, 8-Pin SOIC, Extended Temperature; Manufacturer: Microchip; PartNumber: MCP6293-E/SN; DatasheetVersion: revE, Nov-2007; PackageVersion: revBB, Aug-2009; PackageReference: SOIC-SN8; PackageDescription: 8-Lead Plastic Small Outline (SN) - Narrow, 3.90mm Body [SOIC]; Supplier 1: Digi-Key; Supplier Part Number 1: MCP6293-E/SN-ND; Mounting Technology: Surface Mount; Code_JEDEC: MS-012; Code_IPC: SOIC127P600-8; ComponentLink1Description: Manufacturer URL; ComponentLink1URL: http://www.microchip.com/; ComponentLink2Description: Datasheet; ComponentLink2URL: http://ww1.microchip.com/downloads/en/DeviceDoc/21812e.pdf; ComponentLink3Description: Package Specification; ComponentLink3URL: http://www.microchip.com/stellent/groups/techpub_sg/documents/packagingspec/en012702.pdf
footprint SOIC-SN8_N (SOIC, 8-Leads, Body 4.9x3.8mm, Pitch 1.27mm, IPC Medium Density)
footprint SOIC-SN8_L (SOIC, 8-Leads, Body 4.9x3.8mm, Pitch 1.27mm, IPC High Density)
footprint SOIC-SN8_M (SOIC, 8-Leads, Body 4.9x3.8mm, Pitch 1.27mm, IPC Low Density)
pins: 1 NC, 2 VIN- (in), 3 VIN+ (in), 4 VSS (power), 5 NC, 6 VOUT (out), 7 VDD (power), 8 ~{CS} (in)

## MCP6293T-E/CH
designator U?
1.0 mA, 10 MHz Rail-to-Rail Operational Amplifier, 6-Pin SOT-23, Extended Temperature, Tape and Reel; Manufacturer: Microchip; PartNumber: MCP6293T-E/CH; DatasheetVersion: revE, Nov-2007; PackageVersion: revBB, Aug-2009; PackageReference: SOT-23-CH6; PackageDescription: 6-Lead Plastic Small Outline Transistor (CH) [SOT-23]; Supplier 1: Digi-Key; Supplier Part Number 1: MCP6293T-E/CHTR-ND; Mounting Technology: Surface Mount; Code_IPC: SOT26A-6; ComponentLink1Description: Manufacturer URL; ComponentLink1URL: http://www.microchip.com/; ComponentLink2Description: Datasheet; ComponentLink2URL: http://ww1.microchip.com/downloads/en/DeviceDoc/21812e.pdf; ComponentLink3Description: Package Specification; ComponentLink3URL: http://www.microchip.com/stellent/groups/techpub_sg/documents/packagingspec/en012702.pdf
footprint SOT-23-CH6_N (SOT23, 6-Leads, Body 2.9x1.6mm, Pitch 0.95mm, Lead Span 2.7mm, IPC Medium Density)
footprint SOT-23-CH6_L (SOT23, 6-Leads, Body 2.9x1.6mm, Pitch 0.95mm, Lead Span 2.7mm, IPC High Density)
footprint SOT-23-CH6_M (SOT23, 6-Leads, Body 2.9x1.6mm, Pitch 0.95mm, Lead Span 2.7mm, IPC Low Density)
pins: 1 VOUT (out), 2 VSS (power), 3 VIN+ (in), 4 VIN- (in), 5 ~{CS} (in), 6 VDD (power)

## MCP6293T-E/MS
designator U?
1.0 mA, 10 MHz Rail-to-Rail Operational Amplifier, 8-Pin MSOP, Extended Temperature, Tape and Reel; Manufacturer: Microchip; PartNumber: MCP6293T-E/MS; DatasheetVersion: revE, Nov-2007; PackageVersion: revBB, Aug-2009; PackageReference: MSOP-MS8; PackageDescription: 8-Lead Plastic Micro Small Outline Package (MS) [MSOP]; Supplier 1: Digi-Key; Supplier Part Number 1: MCP6293T-E/MS-ND; Mounting Technology: Surface Mount; ComponentLink1Description: Manufacturer URL; ComponentLink1URL: http://www.microchip.com/; ComponentLink2Description: Datasheet; ComponentLink2URL: http://ww1.microchip.com/downloads/en/DeviceDoc/21812e.pdf; ComponentLink3Description: Package Specification; ComponentLink3URL: http://www.microchip.com/stellent/groups/techpub_sg/documents/packagingspec/en012702.pdf
footprint MSOP-MS8_N (TSOP, 8-Leads, Body 3x3mm, Pitch 0.65mm, IPC Medium Density)
footprint MSOP-MS8_L (TSOP, 8-Leads, Body 3x3mm, Pitch 0.65mm, IPC High Density)
footprint MSOP-MS8_M (TSOP, 8-Leads, Body 3x3mm, Pitch 0.65mm, IPC Low Density)
pins: 1 NC, 2 VIN- (in), 3 VIN+ (in), 4 VSS (power), 5 NC, 6 VOUT (out), 7 VDD (power), 8 ~{CS} (in)

## MCP6293T-E/SN
designator U?
1.0 mA, 10 MHz Rail-to-Rail Operational Amplifier, 8-Pin SOIC, Extended Temperature, Tape and Reel; Manufacturer: Microchip; PartNumber: MCP6293T-E/SN; DatasheetVersion: revE, Nov-2007; PackageVersion: revBB, Aug-2009; PackageReference: SOIC-SN8; PackageDescription: 8-Lead Plastic Small Outline (SN) - Narrow, 3.90mm Body [SOIC]; Supplier 1: Digi-Key; Supplier Part Number 1: MCP6293T-E/SN-ND; Mounting Technology: Surface Mount; Code_JEDEC: MS-012; Code_IPC: SOIC127P600-8; ComponentLink1Description: Manufacturer URL; ComponentLink1URL: http://www.microchip.com/; ComponentLink2Description: Datasheet; ComponentLink2URL: http://ww1.microchip.com/downloads/en/DeviceDoc/21812e.pdf; ComponentLink3Description: Package Specification; ComponentLink3URL: http://www.microchip.com/stellent/groups/techpub_sg/documents/packagingspec/en012702.pdf
footprint SOIC-SN8_N (SOIC, 8-Leads, Body 4.9x3.8mm, Pitch 1.27mm, IPC Medium Density)
footprint SOIC-SN8_L (SOIC, 8-Leads, Body 4.9x3.8mm, Pitch 1.27mm, IPC High Density)
footprint SOIC-SN8_M (SOIC, 8-Leads, Body 4.9x3.8mm, Pitch 1.27mm, IPC Low Density)
pins: 1 NC, 2 VIN- (in), 3 VIN+ (in), 4 VSS (power), 5 NC, 6 VOUT (out), 7 VDD (power), 8 ~{CS} (in)

## MCP6294-E/P
designator U?
1.0 mA, 10 MHz Rail-to-Rail Operational Amplifier, 14-Pin PDIP, Extended Temperature; Manufacturer: Microchip; PartNumber: MCP6294-E/P; DatasheetVersion: revE, Nov-2007; PackageVersion: revBB, Aug-2009; PackageReference: PDIP300-P14; PackageDescription: 14-Lead Plastic Dual In-Line (P) - 300 mil Body [PDIP]; Supplier 1: Digi-Key; Supplier Part Number 1: MCP6294-E/P-ND; Mounting Technology: Through Hole; ComponentLink1Description: Manufacturer URL; ComponentLink1URL: http://www.microchip.com/; ComponentLink2Description: Datasheet; ComponentLink2URL: http://ww1.microchip.com/downloads/en/DeviceDoc/21812e.pdf; ComponentLink3Description: Package Specification; ComponentLink3URL: http://www.microchip.com/stellent/groups/techpub_sg/documents/packagingspec/en012702.pdf
footprint PDIP300-P14 (DIP, 14-Leads, Row Spacing 7.62mm, Pitch 2.54mm, Body 19.2x6.6mm)
pins on every part: 4 VDD (power), 11 VSS (power)
part A pins: 1 VOUTA (out), 2 VINA- (in), 3 VINA+ (in)
part B pins: 5 VINB+ (in), 6 VINB- (in), 7 VOUTB (out)
part C pins: 8 VOUTC (out), 9 VINC- (in), 10 VINC+ (in)
part D pins: 12 VIND+ (in), 13 VIND- (in), 14 VOUTD (out)

## MCP6294-E/SL
designator U?
1.0 mA, 10 MHz Rail-to-Rail Operational Amplifier, 14-Pin SOIC, Extended Temperature; Manufacturer: Microchip; PartNumber: MCP6294-E/SL; DatasheetVersion: revE, Nov-2007; PackageVersion: revBB, Aug-2009; PackageReference: SOIC-SL14; PackageDescription: 14-Lead Plastic Small Outline (SL) - Narrow, 3.90mm Body [SOIC]; Supplier 1: Digi-Key; Supplier Part Number 1: MCP6294-E/SL-ND; Mounting Technology: Surface Mount; Code_JEDEC: MS-012-AB; Code_IPC: SOIC127P600-14; ComponentLink1Description: Manufacturer URL; ComponentLink1URL: http://www.microchip.com/; ComponentLink2Description: Datasheet; ComponentLink2URL: http://ww1.microchip.com/downloads/en/DeviceDoc/21812e.pdf; ComponentLink3Description: Package Specification; ComponentLink3URL: http://www.microchip.com/stellent/groups/techpub_sg/documents/packagingspec/en012702.pdf
footprint SOIC-SL14_N (SOIC, 14-Leads, Body 8.7x3.9mm, Pitch 1.27mm, IPC Medium Density)
footprint SOIC-SL14_L (SOIC, 14-Leads, Body 8.7x3.9mm, Pitch 1.27mm, IPC High Density)
footprint SOIC-SL14_M (SOIC, 14-Leads, Body 8.7x3.9mm, Pitch 1.27mm, IPC Low Density)
pins on every part: 4 VDD (power), 11 VSS (power)
part A pins: 1 VOUTA (out), 2 VINA- (in), 3 VINA+ (in)
part B pins: 5 VINB+ (in), 6 VINB- (in), 7 VOUTB (out)
part C pins: 8 VOUTC (out), 9 VINC- (in), 10 VINC+ (in)
part D pins: 12 VIND+ (in), 13 VIND- (in), 14 VOUTD (out)

## MCP6294-E/ST
designator U?
1.0 mA, 10 MHz Rail-to-Rail Operational Amplifier, 14-Pin TSSOP, Extended Temperature; Manufacturer: Microchip; PartNumber: MCP6294-E/ST; DatasheetVersion: revE, Nov-2007; PackageVersion: revBB, Aug-2009; PackageReference: TSSOP-ST14; PackageDescription: 14-Lead Plastic Thin Shrink Small Outline (ST) - 4.4mm Body [TSSOP]; Supplier 1: Digi-Key; Supplier Part Number 1: MCP6294-E/ST-ND; Mounting Technology: Surface Mount; ComponentLink1Description: Manufacturer URL; ComponentLink1URL: http://www.microchip.com/; ComponentLink2Description: Datasheet; ComponentLink2URL: http://ww1.microchip.com/downloads/en/DeviceDoc/21812e.pdf; ComponentLink3Description: Package Specification; ComponentLink3URL: http://www.microchip.com/stellent/groups/techpub_sg/documents/packagingspec/en012702.pdf
footprint TSSOP-ST14_N (TSOP, 14-Leads, Body 5x4.4mm, Pitch 0.65mm, IPC Medium Density)
footprint TSSOP-ST14_L (TSOP, 14-Leads, Body 5x4.4mm, Pitch 0.65mm, IPC High Density)
footprint TSSOP-ST14_M (TSOP, 14-Leads, Body 5x4.4mm, Pitch 0.65mm, IPC Low Density)
pins on every part: 4 VDD (power), 11 VSS (power)
part A pins: 1 VOUTA (out), 2 VINA- (in), 3 VINA+ (in)
part B pins: 5 VINB+ (in), 6 VINB- (in), 7 VOUTB (out)
part C pins: 8 VOUTC (out), 9 VINC- (in), 10 VINC+ (in)
part D pins: 12 VIND+ (in), 13 VIND- (in), 14 VOUTD (out)

## MCP6294T-E/SL
designator U?
1.0 mA, 10 MHz Rail-to-Rail Operational Amplifier, 14-Pin SOIC, Extended Temperature, Tape and Reel; Manufacturer: Microchip; PartNumber: MCP6294T-E/SL; DatasheetVersion: revE, Nov-2007; PackageVersion: revBB, Aug-2009; PackageReference: SOIC-SL14; PackageDescription: 14-Lead Plastic Small Outline (SL) - Narrow, 3.90mm Body [SOIC]; Supplier 1: Digi-Key; Supplier Part Number 1: MCP6294T-E/SL-ND; Mounting Technology: Surface Mount; Code_JEDEC: MS-012-AB; Code_IPC: SOIC127P600-14; ComponentLink1Description: Manufacturer URL; ComponentLink1URL: http://www.microchip.com/; ComponentLink2Description: Datasheet; ComponentLink2URL: http://ww1.microchip.com/downloads/en/DeviceDoc/21812e.pdf; ComponentLink3Description: Package Specification; ComponentLink3URL: http://www.microchip.com/stellent/groups/techpub_sg/documents/packagingspec/en012702.pdf
footprint SOIC-SL14_N (SOIC, 14-Leads, Body 8.7x3.9mm, Pitch 1.27mm, IPC Medium Density)
footprint SOIC-SL14_L (SOIC, 14-Leads, Body 8.7x3.9mm, Pitch 1.27mm, IPC High Density)
footprint SOIC-SL14_M (SOIC, 14-Leads, Body 8.7x3.9mm, Pitch 1.27mm, IPC Low Density)
pins on every part: 4 VDD (power), 11 VSS (power)
part A pins: 1 VOUTA (out), 2 VINA- (in), 3 VINA+ (in)
part B pins: 5 VINB+ (in), 6 VINB- (in), 7 VOUTB (out)
part C pins: 8 VOUTC (out), 9 VINC- (in), 10 VINC+ (in)
part D pins: 12 VIND+ (in), 13 VIND- (in), 14 VOUTD (out)

## MCP6294T-E/ST
designator U?
1.0 mA, 10 MHz Rail-to-Rail Operational Amplifier, 14-Pin TSSOP, Extended Temperature, Tape and Reel; Manufacturer: Microchip; PartNumber: MCP6294T-E/ST; DatasheetVersion: revE, Nov-2007; PackageVersion: revBB, Aug-2009; PackageReference: TSSOP-ST14; PackageDescription: 14-Lead Plastic Thin Shrink Small Outline (ST) - 4.4mm Body [TSSOP]; Supplier 1: Digi-Key; Supplier Part Number 1: MCP6294T-E/ST-ND; Mounting Technology: Surface Mount; ComponentLink1Description: Manufacturer URL; ComponentLink1URL: http://www.microchip.com/; ComponentLink2Description: Datasheet; ComponentLink2URL: http://ww1.microchip.com/downloads/en/DeviceDoc/21812e.pdf; ComponentLink3Description: Package Specification; ComponentLink3URL: http://www.microchip.com/stellent/groups/techpub_sg/documents/packagingspec/en012702.pdf
footprint TSSOP-ST14_N (TSOP, 14-Leads, Body 5x4.4mm, Pitch 0.65mm, IPC Medium Density)
footprint TSSOP-ST14_L (TSOP, 14-Leads, Body 5x4.4mm, Pitch 0.65mm, IPC High Density)
footprint TSSOP-ST14_M (TSOP, 14-Leads, Body 5x4.4mm, Pitch 0.65mm, IPC Low Density)
pins on every part: 4 VDD (power), 11 VSS (power)
part A pins: 1 VOUTA (out), 2 VINA- (in), 3 VINA+ (in)
part B pins: 5 VINB+ (in), 6 VINB- (in), 7 VOUTB (out)
part C pins: 8 VOUTC (out), 9 VINC- (in), 10 VINC+ (in)
part D pins: 12 VIND+ (in), 13 VIND- (in), 14 VOUTD (out)

## MCP6295-E/MS
designator U?
1.0 mA, 10 MHz Rail-to-Rail Operational Amplifier, 8-Pin MSOP, Extended Temperature; Manufacturer: Microchip; PartNumber: MCP6295-E/MS; DatasheetVersion: revE, Nov-2007; PackageVersion: revBB, Aug-2009; PackageReference: MSOP-MS8; PackageDescription: 8-Lead Plastic Micro Small Outline Package (MS) [MSOP]; Supplier 1: Digi-Key; Supplier Part Number 1: MCP6295-E/MS-ND; Mounting Technology: Surface Mount; ComponentLink1Description: Manufacturer URL; ComponentLink1URL: http://www.microchip.com/; ComponentLink2Description: Datasheet; ComponentLink2URL: http://ww1.microchip.com/downloads/en/DeviceDoc/21812e.pdf; ComponentLink3Description: Package Specification; ComponentLink3URL: http://www.microchip.com/stellent/groups/techpub_sg/documents/packagingspec/en012702.pdf
footprint MSOP-MS8_N (TSOP, 8-Leads, Body 3x3mm, Pitch 0.65mm, IPC Medium Density)
footprint MSOP-MS8_L (TSOP, 8-Leads, Body 3x3mm, Pitch 0.65mm, IPC High Density)
footprint MSOP-MS8_M (TSOP, 8-Leads, Body 3x3mm, Pitch 0.65mm, IPC Low Density)
pins: 1 VOUTA/VINB+ (io), 2 VINA- (in), 3 VINA+ (in), 4 VSS (power), 5 ~{CS} (in), 6 VINB- (in), 7 VOUTB (out), 8 VDD (power)

## MCP6295-E/P
designator U?
1.0 mA, 10 MHz Rail-to-Rail Operational Amplifier, 8-Pin PDIP, Extended Temperature; Manufacturer: Microchip; PartNumber: MCP6295-E/P; DatasheetVersion: revE, Nov-2007; PackageVersion: revBB, Aug-2009; PackageReference: PDIP300-P8; PackageDescription: 8-Lead Plastic Dual In-Line (P) - 300 mil Body [PDIP]; Supplier 1: Digi-Key; Supplier Part Number 1: MCP6295-E/P-ND; Mounting Technology: Through Hole; Code_JEDEC: MS-001; ComponentLink1Description: Manufacturer URL; ComponentLink1URL: http://www.microchip.com/; ComponentLink2Description: Datasheet; ComponentLink2URL: http://ww1.microchip.com/downloads/en/DeviceDoc/21812e.pdf; ComponentLink3Description: Package Specification; ComponentLink3URL: http://www.microchip.com/stellent/groups/techpub_sg/documents/packagingspec/en012702.pdf
footprint PDIP300-P8 (DIP, 8-Leads, Row Spacing 7.62mm, Pitch 2.54mm, Body 9.5x6.6mm)
pins: 1 VOUTA/VINB+ (io), 2 VINA- (in), 3 VINA+ (in), 4 VSS (power), 5 ~{CS} (in), 6 VINB- (in), 7 VOUTB (out), 8 VDD (power)